# EAGLE library part T10 (library 0T)
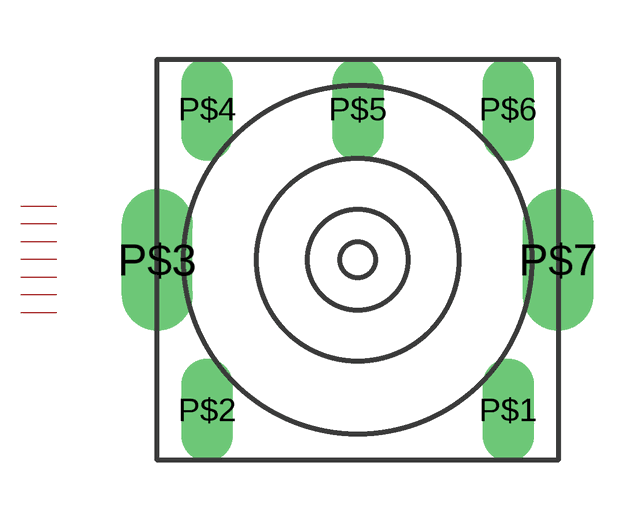
[diagram p0: symbol with the pads of T10; footprint T10]

Designator prefix T; gates G$1=T10 G$2=T10 G$3=T10 G$4=T10 G$5=T10 G$6=T10 G$7=T10

## T10?  [T10]
P$1  G$1:1
P$2  G$2:1
P$3  G$3:1
P$4  G$4:1
P$5  G$5:1
P$6  G$6:1
P$7  G$7:1

## Footprint T10 (pad centres in mm)
drill 0.8 long: P$1 3.81,-3.81; P$2 -3.81,-3.81; P$4 -3.81,3.81; P$5 0,3.81; P$6 3.81,3.81
drill 1.2 long: P$3 -5.08,0; P$7 5.08,0